# Altium footprint library Soft_latch.PcbLib: 2 footprints
Each footprint in its own frame and in the unit in brackets; x right, y up, seen from the top. Pads: shape width x height; smd on the part's side, far side on the other; paste and mask are expansions set on the pad; w line width, h text height; cw(c..) or ccw(c..) is an arc to the next point about the centre after c.
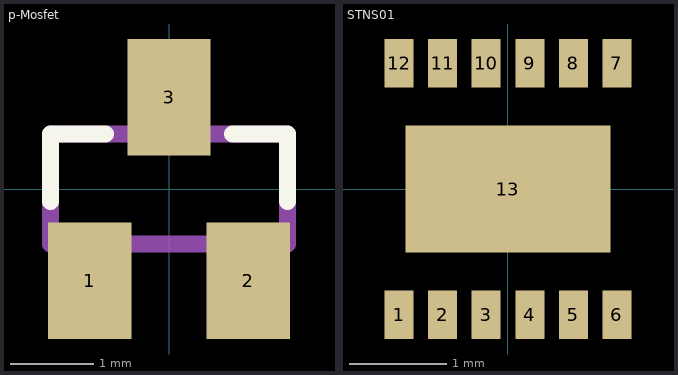
[diagram p0: the footprints below, top view; thin cyan lines are the x and y axes]

## p-Mosfet [mm]
pads (3):
  rect 1x1.4 smd: 1(-0.95,-1.1) 2(0.95,-1.1) 3(0,1.1)
Top Overlay:
  lines w0.203: -1.422,-0.152 -1.422,0.66 -0.764,0.66 ; 0.764,0.66 1.422,0.66 1.422,-0.152
Mechanical 13:
  region: -0.711,-1.297 -1.17,-1.297 -1.17,-0.711 -0.711,-0.711
  region: 1.168,-1.296 0.711,-1.296 0.711,-0.711 1.168,-0.711
  region: 0.229,0.712 -0.229,0.712 -0.229,1.295 0.229,1.295
  lines w0.203: -1.422,-0.66 -1.422,0.66 1.422,0.66 1.422,-0.66 -1.422,-0.66

## STNS01 [mm]
pads (13):
  rect 0.3x0.5 smd: 1(-1.125,-1.3) 2(-0.675,-1.3) 3(-0.225,-1.3) 4(0.225,-1.3) 5(0.675,-1.3) 6(1.125,-1.3) 7(1.125,1.3) 8(0.675,1.3) 9(0.225,1.3) 10(-0.225,1.3) 11(-0.675,1.3) 12(-1.125,1.3)
  rect 2.12x1.31 smd: 13(0,0)
3D body "DFN_S01PUR_STM.step": height 0.81, standoff 0, extent -1.575,-1.575 1.575,1.575